# Altium schematic symbol library 2SB1707TL.SchLib: 1 symbol
Pins are listed as number, name and electrical type; pins without a type are passive.

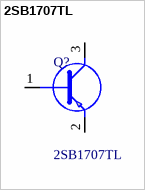
[diagram p0: symbol 2SB1707TL]

## 2SB1707TL
designator Q?
PNP, SOT-346T, -12V -4A, Low VCE(sat) Transistor; Manufacturer_Name: ROHM Semiconductor; Geometry.Height: 1mm; Mouser Part Number: 755-2SB1707TL; Mouser Price/Stock: https://www.mouser.com/Search/Refine.aspx?Keyword=755-2SB1707TL; Manufacturer_Part_Number: 2SB1707TL; Datasheet Link: https://componentsearchengine.com/Datasheets/1/2SB1707TL.pdf
footprint SOT95P280X100-3N
pins: 1 B, 2 E, 3 C